# Altium schematic symbol library Other.SchLib: 2 symbols
Pins are listed as number, name and electrical type; pins without a type are passive.

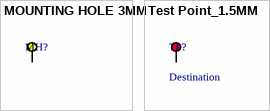
[diagram p0: symbols MOUNTING HOLE 3MM to Test Point_1.5MM]

## MOUNTING HOLE 3MM
designator MH?
footprint MOUNTING HOLE 3MM
pins: 0

## Test Point_1.5MM
designator TP?, comment Destination
footprint OTHER_SMD_TP_1.5MM (Test point)
pins: 1